# Altium schematic symbol library Diodes.SchLib: 11 symbols
Pins are listed as number, name and electrical type; pins without a type are passive.

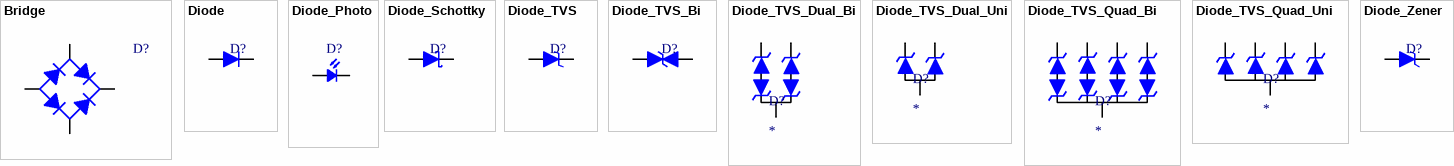
[diagram p0: symbols Bridge to Diode_Zener]

## Bridge
designator D?
Full Wave Diode Bridge
pins: +, -, AC1, AC2

## Diode
designator D?
Default Diode
pins: A, C

## Diode_Photo
designator D?
Photo diode
pins: A, C

## Diode_Schottky
designator D?
Schottky Diode
pins: A, C

## Diode_TVS
designator D?
TVS Diode
pins: A, C

## Diode_TVS_Bi
designator D?
Bidirectional TVS diode
pins: A1, A2

## Diode_TVS_Dual_Bi
designator D?
Dual Bidirectional TVS diode
pins: C1, C2, CC

## Diode_TVS_Dual_Uni
designator D?
Dual Unidirectional TVS diode
pins: C1, C2, CA

## Diode_TVS_Quad_Bi
designator D?
Quad Bidirectional TVS diode
pins: C1, C2, C2, C2, CC

## Diode_TVS_Quad_Uni
designator D?
Quad Unidirectional TVS diode
pins: C1, C2, C2, C2, CC

## Diode_Zener
designator D?
Zener Diode
pins: A, C